# EAGLE library part STD043F07X1 (library con-pinheader-standard)
female standard header 2mm, 4.3mm height
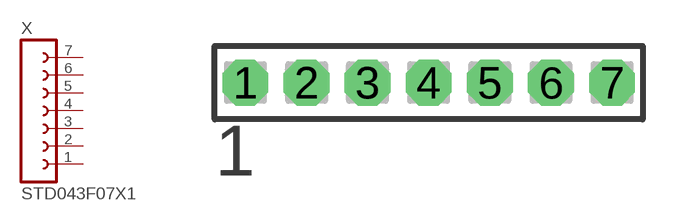
[diagram p1: symbol with the pads of STD043F07X1-2.00; footprint STD043F07X1-2.00]

Designator prefix X

## STD043F07X1-2.00MM (OC_FARNELL: unknown; OC_NEWARK: unknown)  [STD043F07X1-2.00]
1  1  pas
2  2  pas
3  3  pas
4  4  pas
5  5  pas
6  6  pas
7  7  pas

## Footprint STD043F07X1-2.00 (pad centres in mm)
female standard header 2mm, 4.3mm height
drill 0.8 pad 1.5 octagon: 1 -6,0; 2 -4,0; 3 -2,0; 4 0,0; 5 2,0; 6 4,0; 7 6,0